# EAGLE library part 615008142621 (library Eagle_WR-MJ (rev23b))
WR-MJ Modular Jack Horizontal Shielded Front Grounding Post 8P8C Tab Down General Information Operating Temperature -40 up to +85 °C Electrical Properties Working Voltage 120 V (AC) Withstanding Voltage 1000 V (AC) Contact Resistance 20 mΩ RISO 500 MΩ Material Properties Insulator Material PBT Insulator Flammability Rating UL94 V-0 Insulator Color Black Contact Material Copper Alloy Contact Plating Selective Gold Contact Type Stamped Shielding Material Bronze Shielding Plating Nickel (Ni) Packaging Properties Packaging Tray <https://www.we-online.com/components/media/o33131v209%20Family_WR-MJ_615008142621.jpg> Details see: www.we-online.com/en/components/products/MJ_HORIZONTAL_SHIELDED_REAR_GROUNDING_POST_8P8C_TAB_DOWN <www.we-online.com/catalog/MJ_HORIZONTAL_SHIELDED_REAR_GROUNDING_POST_8P8C_TAB_DOWN/?utm_source=eagle_model&utm_medium=description_link&utm_campaign=eisos_eagle> Updated by Ella Wu 2023-11-13 2023 (C) Würth Elektronik
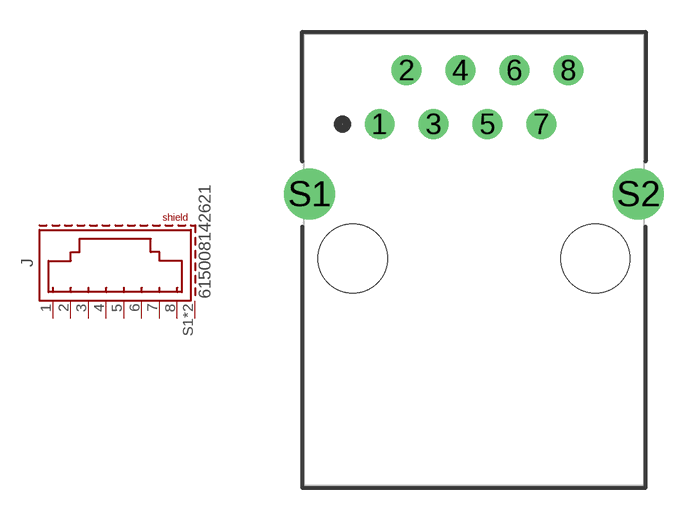
[diagram p59: symbol with the pads of 615008142621; footprint 615008142621]

Designator prefix J

## 615008142621 (DATASHEET-URL: https://www.we-online.com/redexpert/spec/615008142621?ae; MOUNT: THT; PART-NUMBER: 615008142621; TYPE: Horizontal; VALUE: 615008142621; XPXC: 8P8C)  [615008142621]
1  8  pas
2  7  pas
3  6  pas
4  5  pas
5  4  pas
6  3  pas
7  2  pas
8  1  pas
S1  SHIELD  pas
S2  SHIELD  pas

## Footprint 615008142621 (pad centres in mm)
WR-MJ Modular Jack Horizontal Shielded Rear Grounding Post 8P8C Tab Down THT, 8 Pins
drill 0.9: 1 -4.445,6.35; 2 -3.175,8.89; 3 -1.905,6.35; 4 -0.635,8.89; 5 0.635,6.35; 6 1.905,8.89; 7 3.175,6.35; 8 4.445,8.89
drill 1.6: S1 -7.75,3.05; S2 7.75,3.05
hole 3.25 at -5.715,0
hole 3.25 at 5.715,0